# Altium footprint library ELKO_d18_h35.5_p7_5.PcbLib: 1 footprints
Each footprint in its own frame and in the unit in brackets; x right, y up, seen from the top. Pads: shape width x height; smd on the part's side, far side on the other; paste and mask are expansions set on the pad; w line width, h text height; cw(c..) or ccw(c..) is an arc to the next point about the centre after c.
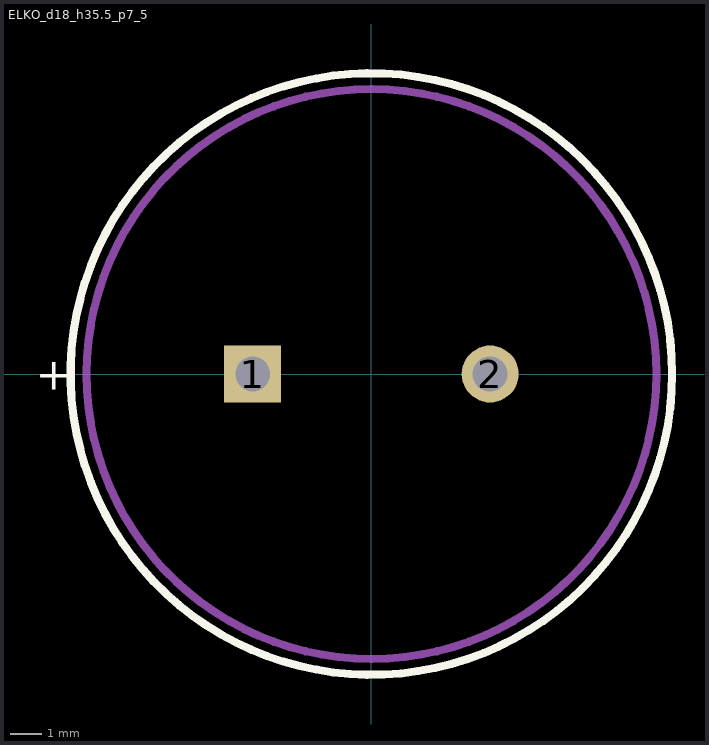
[diagram p0: the footprint, top view; thin cyan lines are the x and y axes]

## ELKO_d18_h35.5_p7_5 [mm]
height 35.5
pads (2):
  rect 1.8x1.8 hole 1.1: 1(-3.75,0)
  round 1.8 hole 1.1: 2(3.75,0)
Top Overlay:
  circle w0.254: c0,0 r9.5
  text "+" at -10.6,-0.5 h1
Mechanical 1:
  circle w0.254: c0,0 r9
3D body: height 35.5, standoff 0, extent -9.01,-9.01 9.01,9.01